# Altium footprint library LCDs.PcbLib: 3 footprints
Each footprint in its own frame and in the unit in brackets; x right, y up, seen from the top. Pads: shape width x height; smd on the part's side, far side on the other; paste and mask are expansions set on the pad; w line width, h text height; cw(c..) or ccw(c..) is an arc to the next point about the centre after c.
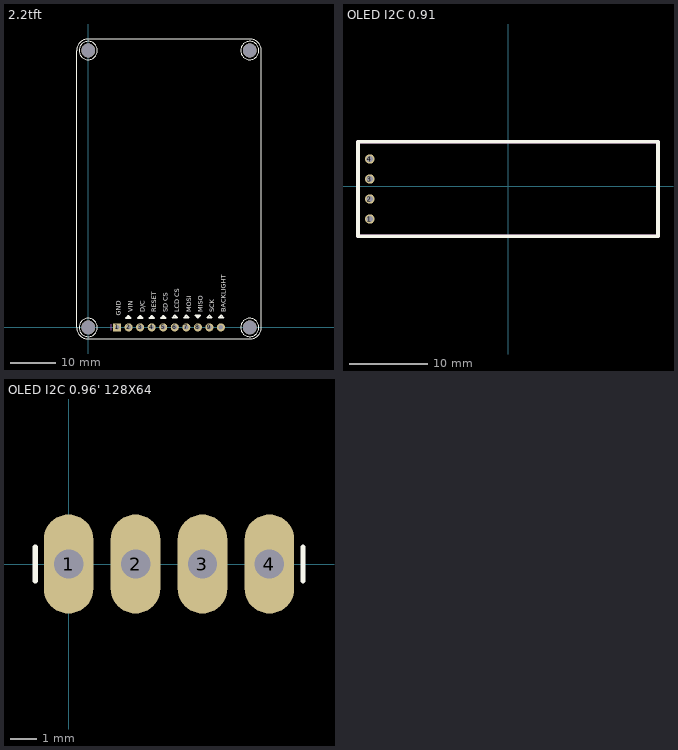
[diagram p0: the footprints below, top view; thin cyan lines are the x and y axes]

## 2.2tft [mil]
pads (14):
  rect 70x70 hole 39.4: 1(250,1)
  round 70 hole 39.4: 2(350,1) 3(450,1) 4(550,1) 5(650,1) 6(750,1) 7(850,1) 8(950,1) 9(1050,1) 10(1150,1)
  round 120 hole 120 unplated: ""(0,1) ""(0,2401) ""(1400,1) ""(1400,2401)
Top Overlay:
  circle w10: c0,0 r79
  circle w10: c1400,0 r79
  circle w10: c1400,2400 r79
  circle w10: c0,2400 r79
  lines w6: -100,0 ccw(c0,0) 0,-100 1400,-100 ccw(c1400,0) 1500,0 1500,2400 ccw(c1400,2400) 1400,2500 0,2500 ccw(c0,2400) -100,2400 -100,0
  lines w16: 328,82 348,102 368,82 328,82 ; 431,82 451,102 471,82 431,82 ; 531,82 551,102 571,82 531,82 ; 631,82 651,102 671,82 631,82 ; 731,84 751,104 771,84 731,84 ; 831,84 851,104 871,84 831,84 ; 931,104 951,84 971,104 931,104 ; 1031,84 1051,104 1071,84 1031,84 ; 1131,84 1151,104 1171,84 1131,84
  text "D/C" at 491,132 h40
  text "BACKLIGHT" at 1191,132 h40
  text "MISO" at 991,132 h40
  text "SCK" at 1091,132 h40
  text "MOSI" at 891,132 h40
  text "LCD CS" at 791,132 h40
  text "SD CS" at 691,132 h40
  text "RESET" at 591,132 h40
  text "VIN" at 388,132 h40
  text "GND" at 280,101 h40
Mechanical 2:
  lines w10: 200,-24 200,26

## OLED I2C 0.91 [mil]
pads (4):
  round 47.25 hole 31.5: 1(-690.94,-163.78) 2(-690.94,-63.78) 3(-690.94,36.22) 4(-690.94,136.22)
Top Overlay keep-out:
  lines w19.68: 746.06,-250 -750,-250 -750,222.44 746.06,222.44 ; 750,-250 750,222.44
3D body "OLED_0.91_128x32.stp": height 177.56, standoff -273.62, extent -753.93,-243.18 753.94,233.19

## OLED I2C 0.96' 128X64 [mil]
pads (4):
  oval 74x148 hole 44: 1(0,0) 2(100,0) 3(200,0) 4(300,0)
Top Overlay:
  lines w8: -50,-25 -50,25 ; 350,-25 350,25
Mechanical 18:
  rectangle: -10,-10 10,10
  rectangle: 90,-10 110,10
  rectangle: 190,-10 210,10
  rectangle: 290,-10 310,10
3D body "128x64I2COLEDDisplayAdafruit.step": height 176.09, standoff -250.91, extent -375.59,-1006.85 675.59,90